# EAGLE library part RN4871-I_RM140 (library SamacSys_Parts)
Bluetooth Modules (802.15.1) Bluetooth Low Energy BLE Module, Shielded, Antenna, ASCII Interface, 9x11.5mm Source: Datasheet <https://ww1.microchip.com/downloads/aemDocuments/documents/WSG/ProductDocuments/DataSheets/RN4870-71-Bluetooth-Low-Energy-Module-DS50002489.pdf>
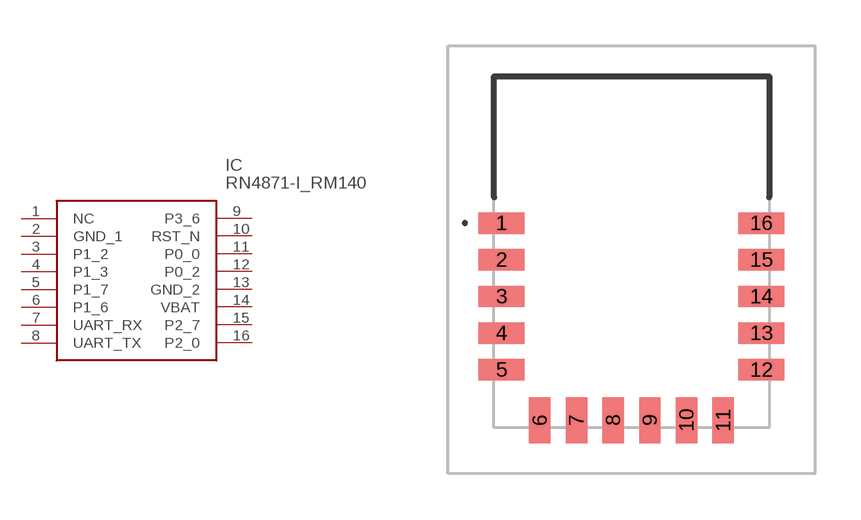
[diagram p3: symbol with the pads of RN4871IRM140; footprint RN4871IRM140]

Designator prefix IC

## RN4871-I_RM140 (DESCRIPTION: Bluetooth Modules (802.15.1) Bluetooth Low Energy BLE Module, Shielded, Antenna, ASCII Interface, 9x11.5mm; HEIGHT: 2.1mm; MANUFACTURER_NAME: Microchip; MANUFACTURER_PART_NUMBER: RN4871-I/RM140; MOUSER_PART_NUMBER: 579-RN4871-I/RM140; MOUSER_PRICE-STOCK: https://www.mouser.co.uk/ProductDetail/Microchip-Technology/RN4871-I-RM140?qs=BJlw7L4Cy79OHrwBC2yoPQ%3D%3D)  [RN4871IRM140]
1  NC  nc
2  GND_1
3  P1_2
4  P1_3
5  P1_7
6  P1_6
7  UART_RX
8  UART_TX
9  P3_6
10  RST_N
11  P0_0
12  P0_2
13  GND_2
14  VBAT
15  P2_7
16  P2_0

## Footprint RN4871IRM140 (pad centres in mm)
16-SMD Module
smd 1.5 x 0.7: 1 -4.25,0.95; 2 -4.25,-0.25; 3 -4.25,-1.45; 4 -4.25,-2.65; 5 -4.25,-3.85; 12 4.25,-3.85; 13 4.25,-2.65; 14 4.25,-1.45; 15 4.25,-0.25; 16 4.25,0.95
smd 0.7 x 1.5: 6 -3,-5.5; 7 -1.8,-5.5; 8 -0.6,-5.5; 9 0.6,-5.5; 10 1.8,-5.5; 11 3,-5.5